# Altium footprint library Diodes.PcbLib: 38 footprints (part 2 of 3)
Each footprint in its own frame and in the unit in brackets; x right, y up, seen from the top. Pads: shape width x height; smd on the part's side, far side on the other; paste and mask are expansions set on the pad; w line width, h text height; cw(c..) or ccw(c..) is an arc to the next point about the centre after c.
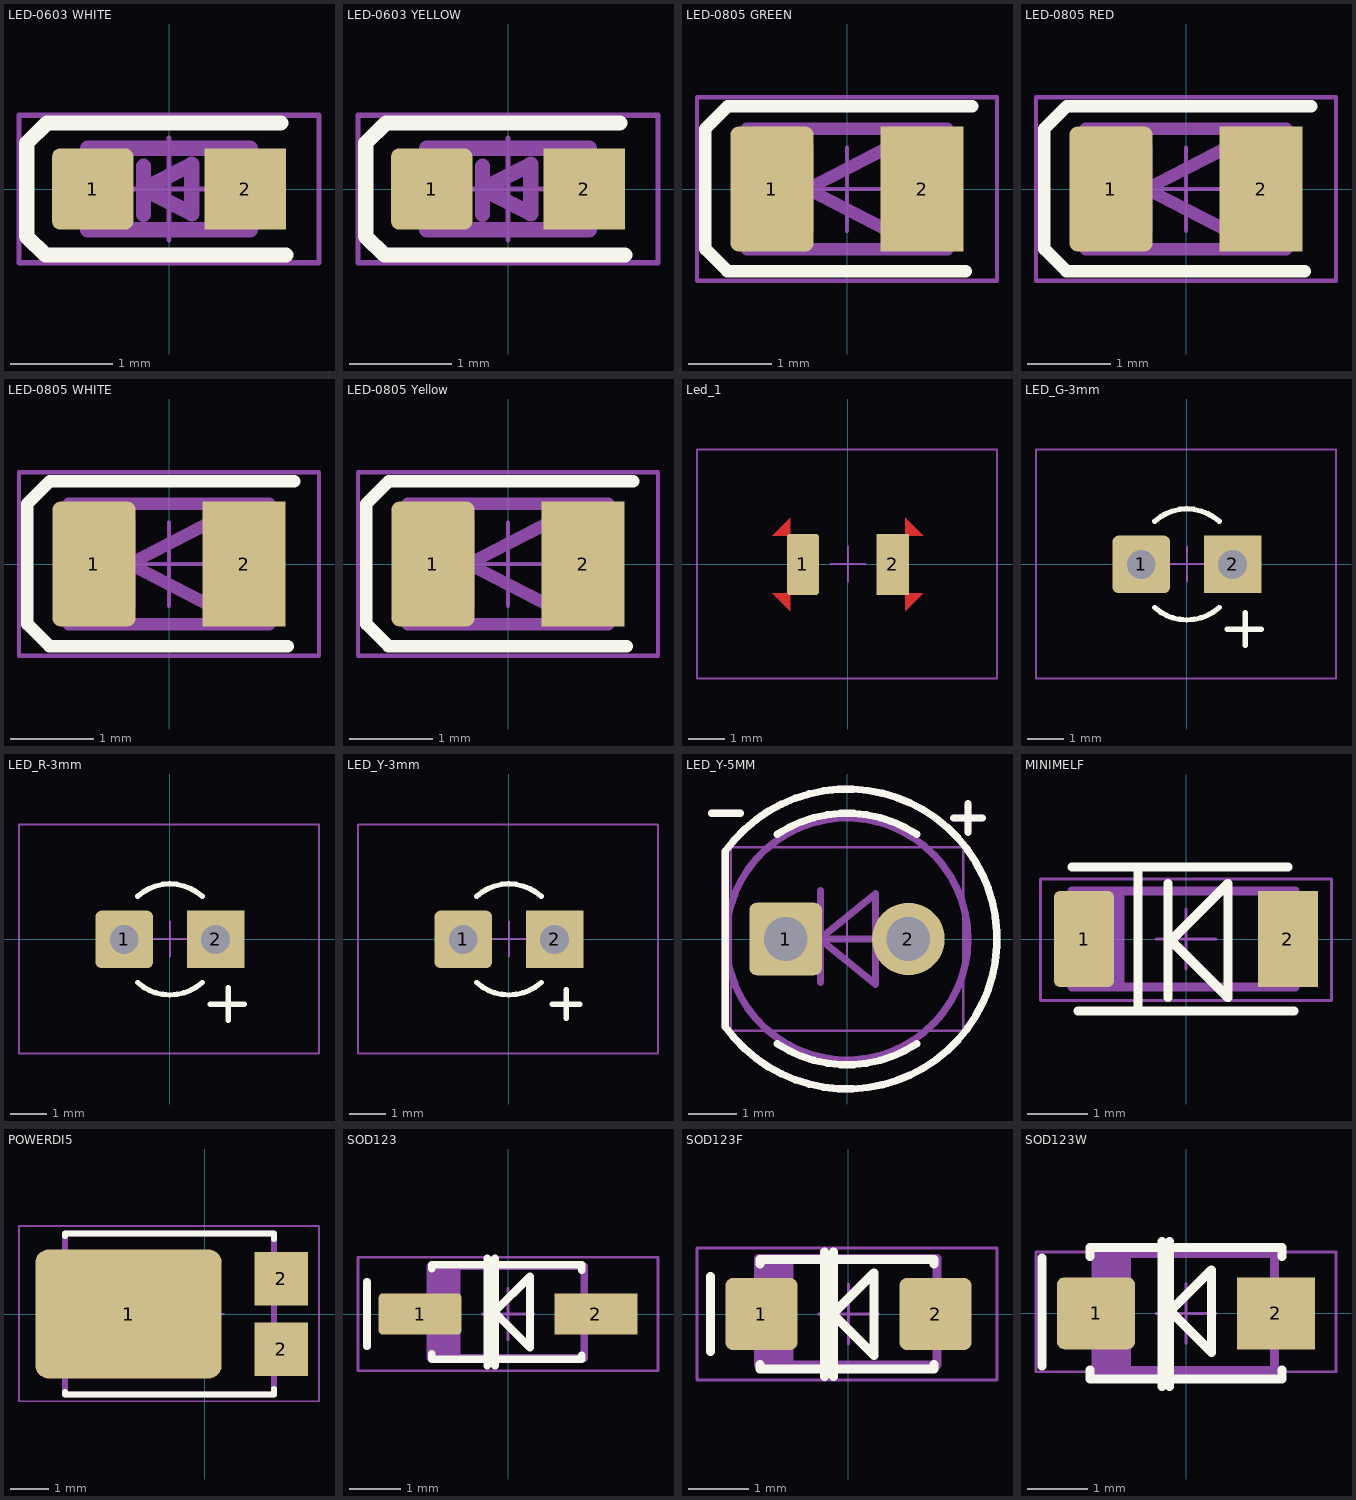
[diagram p1: the footprints below, top view; thin cyan lines are the x and y axes]

## LED-0603 WHITE [mm] "Чип светодиод 0603"
height 0.8
pads (2):
  rrect20% 0.8x0.8 smd: 1(-0.75,0)
  rect 0.8x0.8 smd: 2(0.75,0)
Top Overlay:
  lines w0.15: 1.1,0.65 -1.2,0.65 -1.4,0.45 -1.4,-0.465 -1.215,-0.65 1.15,-0.65
TopAssy 13:
  lines w0.15: -0.25,-0.25 -0.25,0.225 ; -0.8,-0.4 0.8,-0.4 0.8,0.4 -0.8,0.4 -0.8,-0.4 ; -0.25,0 0.225,0.244 0.225,-0.244 -0.25,0
CourtTop 15:
  lines w0.05: -0.5,0 0.5,0 ; 0,-0.5 0,0.5 ; -1.475,-0.725 1.475,-0.725 1.475,0.725 -1.475,0.725 -1.475,-0.725
3D body "User Library-Wurth Elektronik WL-SMCW 0603 (1608) LED Lens (Separate Body).step": height 0.7, standoff 0.3, extent -0.55,-0.4 0.55,0.4
3D body "User Library-Wurth Elektronik WL-SMCW 0603 (1608) LED Base (Separate Lens).step": height 0.64, standoff 0, extent -0.8,-0.4 0.8,0.4

## LED-0603 YELLOW [mm] "Чип светодиод 0603"
height 0.8
pads (2):
  rrect20% 0.8x0.8 smd: 1(-0.75,0)
  rect 0.8x0.8 smd: 2(0.75,0)
Top Overlay:
  lines w0.15: 1.1,0.65 -1.2,0.65 -1.4,0.45 -1.4,-0.465 -1.215,-0.65 1.15,-0.65
TopAssy 13:
  lines w0.15: -0.25,-0.25 -0.25,0.225 ; -0.8,-0.4 0.8,-0.4 0.8,0.4 -0.8,0.4 -0.8,-0.4 ; -0.25,0 0.225,0.244 0.225,-0.244 -0.25,0
CourtTop 15:
  lines w0.05: -0.5,0 0.5,0 ; 0,-0.5 0,0.5 ; -1.475,-0.725 1.475,-0.725 1.475,0.725 -1.475,0.725 -1.475,-0.725
3D body "User Library-Wurth Elektronik WL-SMCW 0603 (1608) LED Base (Separate Lens).step": height 0.64, standoff 0, extent -0.8,-0.4 0.8,0.4
3D body "User Library-Wurth Elektronik WL-SMCW 0603 (1608) LED Lens (Separate Body).step": height 0.7, standoff 0.3, extent -0.55,-0.4 0.55,0.4

## LED-0805 GREEN [mm] "Чип светодиод 0805/ KPT-2012SURC/ KPT-2012SGC/ KPT-2012SYC"
pads (2):
  rrect20% 1x1.5 smd: 1(-0.9,0)
  rect 1x1.5 smd: 2(0.9,0)
Top Overlay:
  lines w0.15: 1.425,-0.985 -1.435,-0.985 -1.7,-0.72 -1.7,0.725 -1.431,0.994 1.5,0.994
TopAssy 13:
  lines w0.15: -0.475,-0.5 -0.475,0.5 ; -1.2,-0.725 -1.2,0.725 1.2,0.725 1.2,-0.725 -1.2,-0.725 ; -0.475,0 0.5,-0.5 0.5,0.5 -0.475,0
CourtTop 15:
  lines w0.05: -0.5,0 0.5,0 ; 0,-0.5 0,0.5 ; -1.8,-1.1 1.8,-1.1 1.8,1.1 -1.8,1.1 -1.8,-1.1
3D body "User Library-Wurth Elektronik WL-SMCW 0805 (2012) LED Lens (Separate Body).step": height 0.7, standoff 0.3, extent -0.7,-0.625 0.7,0.625
3D body "User Library-Wurth Elektronik WL-SMCW 0805 (2012) LED Base (Separate Lens).step": height 0.64, standoff 0, extent -1,-0.625 1,0.625

## LED-0805 RED [mm] "Чип светодиод 0805/ KPT-2012SURC/ KPT-2012SGC/ KPT-2012SYC"
pads (2):
  rrect20% 1x1.5 smd: 1(-0.9,0)
  rect 1x1.5 smd: 2(0.9,0)
Top Overlay:
  lines w0.15: 1.425,-0.985 -1.435,-0.985 -1.7,-0.72 -1.7,0.725 -1.431,0.994 1.5,0.994
TopAssy 13:
  lines w0.15: -0.475,-0.5 -0.475,0.5 ; -1.2,-0.725 -1.2,0.725 1.2,0.725 1.2,-0.725 -1.2,-0.725 ; -0.475,0 0.5,-0.5 0.5,0.5 -0.475,0
CourtTop 15:
  lines w0.05: -0.5,0 0.5,0 ; 0,-0.5 0,0.5 ; -1.8,-1.1 -1.8,1.1 1.8,1.1 1.8,-1.1 -1.8,-1.1
3D body "User Library-Wurth Elektronik WL-SMCW 0805 (2012) LED Lens (Separate Body).step": height 0.7, standoff 0.3, extent -0.7,-0.625 0.7,0.625
3D body "User Library-Wurth Elektronik WL-SMCW 0805 (2012) LED Base (Separate Lens).step": height 0.64, standoff 0, extent -1,-0.625 1,0.625

## LED-0805 WHITE [mm] "Чип светодиод 0805 ,белый"
pads (2):
  rrect20% 1x1.5 smd: 1(-0.9,0)
  rect 1x1.5 smd: 2(0.9,0)
Top Overlay:
  lines w0.15: 1.425,-0.985 -1.435,-0.985 -1.7,-0.72 -1.7,0.725 -1.431,0.994 1.5,0.994
TopAssy 13:
  lines w0.15: -0.475,-0.5 -0.475,0.5 ; -1.2,-0.725 1.2,-0.725 1.2,0.725 -1.2,0.725 -1.2,-0.725 ; -0.475,0 0.5,0.5 0.5,-0.5 -0.475,0
CourtTop 15:
  lines w0.05: -0.5,0 0.5,0 ; 0,-0.5 0,0.5 ; -1.8,-1.1 -1.8,1.1 1.8,1.1 1.8,-1.1 -1.8,-1.1
3D body "User Library-Wurth Elektronik WL-SMCW 0805 (2012) LED Base (Separate Lens).step": height 0.64, standoff 0, extent -1,-0.625 1,0.625
3D body "User Library-Wurth Elektronik WL-SMCW 0805 (2012) LED Lens (Separate Body).step": height 0.7, standoff 0.3, extent -0.7,-0.625 0.7,0.625

## LED-0805 Yellow [mm] "Чип светодиод 0805/ KPT-2012SURC/ KPT-2012SGC/ KPT-2012SYC"
pads (2):
  rrect20% 1x1.5 smd: 1(-0.9,0)
  rect 1x1.5 smd: 2(0.9,0)
Top Overlay:
  lines w0.15: 1.425,-0.985 -1.435,-0.985 -1.7,-0.72 -1.7,0.725 -1.431,0.994 1.5,0.994
TopAssy 13:
  lines w0.15: -0.475,-0.5 -0.475,0.5 ; -1.2,-0.725 -1.2,0.725 1.2,0.725 1.2,-0.725 -1.2,-0.725 ; -0.475,0 0.5,-0.5 0.5,0.5 -0.475,0
CourtTop 15:
  lines w0.05: -0.5,0 0.5,0 ; 0,-0.5 0,0.5 ; -1.8,-1.1 -1.8,1.1 1.8,1.1 1.8,-1.1 -1.8,-1.1
3D body "User Library-Wurth Elektronik WL-SMCW 0805 (2012) LED Lens (Separate Body).step": height 0.7, standoff 0.3, extent -0.7,-0.625 0.7,0.625
3D body "User Library-Wurth Elektronik WL-SMCW 0805 (2012) LED Base (Separate Lens).step": height 0.64, standoff 0, extent -1,-0.625 1,0.625

## Led_1 [mm]
pads (2):
  rrect20% 0.9x1.7 smd: 1(-1.25,0)
  rect 0.9x1.7 smd: 2(1.25,0)
Top:
  region: 1.6,-1.3 2.1,-0.8 1.825,-0.8 1.6,-0.8
  region: -2.1,-0.8 -1.6,-1.3 -1.6,-1.025 -1.6,-0.8
  region: -1.6,1.3 -2.1,0.8 -1.825,0.8 -1.6,0.8
  region: 2.1,0.8 1.6,1.3 1.6,1.025 1.6,0.8
  text "+" at 4.976,-1.041 h1.92
Top Solder:
  region: -2.262,-0.725 -1.538,-1.45 -1.537,-1.175 -1.537,-0.725
  region: -1.525,1.462 -2.25,0.738 -1.975,0.737 -1.525,0.737
  region: 2.263,0.725 1.538,1.45 1.538,1.175 1.538,0.725
  region: 1.525,-1.462 2.25,-0.738 1.975,-0.737 1.525,-0.737
CourtTop 15:
  lines w0.05: -0.488,0.012 0.487,0.012 ; 0,-0.475 0,0.5 ; -4.2,-3.175 -4.2,3.2 4.15,3.2 4.15,-3.175 -4.2,-3.175

## LED_G-3mm [mm] "LED; 2 Leads"
height 1.45
pads (2):
  rrect20% 1.6x1.6 hole 0.8: 1(-1.27,0)
  rect 1.6x1.6 hole 0.8: 2(1.27,0)
Top Overlay:
  lines w0.15: -0.9,-1.2 ccw(c0,-0.2) 0.9,-1.2 ; -0.9,1.2 cw(c0,0.2) 0.9,1.2 ; 1.125,-1.8 2.075,-1.8 ; 1.625,-2.25 1.625,-1.35
CourtTop 15:
  lines w0.05: -0.488,0.012 0.487,0.012 ; 0,-0.475 0,0.5 ; -4.2,-3.175 4.15,-3.175 4.15,3.2 -4.2,3.2 -4.2,-3.175
3D body "SW3dPS-LEDd3G.STEP": height 5.51, standoff -2.49, extent -1.664,-1.649 1.636,1.64

## LED_R-3mm [mm] "LED; 2 Leads"
height 1.45
pads (2):
  rrect20% 1.6x1.6 hole 0.8: 1(-1.27,0)
  rect 1.6x1.6 hole 0.8: 2(1.27,0)
Top Overlay:
  lines w0.15: -0.9,-1.2 ccw(c0,-0.2) 0.9,-1.2 ; -0.9,1.2 cw(c0,0.2) 0.9,1.2 ; 1.125,-1.8 2.075,-1.8 ; 1.625,-2.25 1.625,-1.35
CourtTop 15:
  lines w0.05: -0.488,0.012 0.487,0.012 ; 0,-0.475 0,0.5 ; -4.2,-3.175 4.15,-3.175 4.15,3.2 -4.2,3.2 -4.2,-3.175
3D body "SW3dPS-LEDd3R.STEP": height 5.51, standoff -2.49, extent -1.664,-1.649 1.636,1.64

## LED_Y-3mm [mm] "LED; 2 Leads"
height 1.45
pads (2):
  rrect20% 1.6x1.6 hole 0.8: 1(-1.27,0)
  rect 1.6x1.6 hole 0.8: 2(1.27,0)
Top Overlay:
  lines w0.15: -0.9,-1.2 ccw(c0,-0.2) 0.9,-1.2 ; -0.9,1.2 cw(c0,0.2) 0.9,1.2 ; 1.2,-1.8 1.975,-1.8 ; 1.6,-2.2 1.6,-1.4
CourtTop 15:
  lines w0.05: -0.488,0.012 0.487,0.012 ; 0,-0.475 0,0.5 ; -4.2,-3.175 -4.2,3.2 4.15,3.2 4.15,-3.175 -4.2,-3.175
3D body "SW3dPS-LEDd3Y.STEP": height 5.51, standoff -2.49, extent -1.664,-1.649 1.636,1.64

## LED_Y-5MM [mm] "LED-Y-5mm"
height 5.7
pads (2):
  rrect20% 1.5x1.5 hole 0.9: 1(-1.27,0)
  round 1.5 hole 0.9: 2(1.27,0)
Top Overlay:
  lines w0.15: -2.8,2.6 -2.2,2.6 ; -1.442,-2.163 ccw(c0,0) 1.442,-2.163 ; -1.442,2.163 cw(c0,0) 1.442,2.163 ; 2.2,2.5 2.8,2.5 ; 2.5,2.2 2.5,2.8 ; -2.516,-1.811 ccw(c0,0) -2.516,1.811 ; -2.516,-1.811 ccw(c0,0) -2.516,1.811 ; -2.516,-1.811 -2.516,1.811
TopAssy 13:
  circle w0.15: c0,0 r2.5
  lines w0.15: -2.8,2.6 -2.2,2.6 ; -0.95,0 -0.55,0 0.95,0 ; -0.55,-0.9 -0.55,1 ; 2.2,2.5 2.8,2.5 ; 2.5,2.2 2.5,2.8 ; -2.516,-1.811 ccw(c0,0) -2.516,1.811 -2.516,-1.811 ; -0.563,0 0.587,0.937 0.587,-0.937 -0.563,0
CourtTop 15:
  lines w0.05: -0.488,0.012 0.487,0.012 ; 0,-0.475 0,0.5 ; -2.4,-1.9 -2.4,1.9 2.4,1.9 2.4,-1.9 -2.4,-1.9
CourtBot 16:
  circle w0.15: c1.296,-0.092 r0.4
  circle w0.15: c-1.27,0 r0.4
3D body "User Library-LED-D5Y.step": height 9.14, standoff -6.3, extent -2.5,-3 3,3

## MINIMELF [mm] "MINIMELF(DO-213AA)(SOD-80)"
pads (2):
  rrect20% 1x1.6 smd: 1(-1.7,0)
  rect 1x1.6 smd: 2(1.7,0)
Top Overlay:
  lines w0.15: -1.9,1.2 1.7,1.2 ; -1.8,-1.2 1.8,-1.2 ; -0.8,-1.2 -0.8,1.1 ; -0.3,-0.975 -0.3,0.925 ; -0.3,-0.075 0.7,0.925 0.7,-0.975 -0.2,-0.075
TopAssy 13:
  lines w0.15: -1.4,-0.8 -1.4,0.8 ; -1.2,-0.8 -1.2,0.8 ; -1.1,-0.8 -1.1,0.8 ; 1.3,-0.8 1.3,0.8 ; -1.9,-0.8 1.82,-0.8 1.82,0.8 -1.9,0.8 -1.9,-0.8
CourtTop 15:
  lines w0.05: -0.5,0 0.5,0 ; 0,-0.5 0,0.5 ; -2.425,-1.025 2.425,-1.025 2.425,1 -2.425,1 -2.425,-1.025
3D body "User Library-MiniMelf-2.step": height 1.6, standoff 0, extent -1.88,-0.8 1.82,0.8

## POWERDI5 [mm] "POWERDI5"
pads (3):
  rrect20% 4.86x3.36 smd: 1(-1.992,0)
  rect 1.39x1.4 smd: 2(1.993,-0.92) 2(1.993,0.92)
Top Overlay:
  lines w0.15: -3.65,-2.025 -3.65,-2.1 1.8,-2.1 1.8,-1.95 ; -3.65,2.025 -3.65,2.1 1.8,2.1 1.8,1.95
TopAssy 13:
  lines w0.15: -3.65,-0.895 -4.207,-0.895 -4.207,0.83 -3.65,0.83 ; -1.407,-0.895 -1.407,1.005 ; -1.407,0.005 -0.407,1.005 -0.407,-0.895 -1.307,0.005 ; 1.793,0.48 2.293,0.48 2.293,1.38 1.818,1.38 ; 1.818,-1.395 2.293,-1.395 2.293,-0.47 1.818,-0.47 ; -3.65,-2.1 -3.65,2.1 1.8,2.1 1.8,-2.1 -3.65,-2.1
CourtTop 15:
  lines w0.05: -0.5,0 0.5,0 ; 0,-0.5 0,0.5 ; -4.85,-2.275 -4.85,2.3 2.975,2.3 2.975,-2.275 -4.85,-2.275
3D body "User Library-PowerDI-5.STEP": height 1.17, standoff 0.02, extent -4.225,-2.025 2.375,2.025

## SOD123 [mm] "SOD-123; 2 Leads; Body 2.7 x 1.6 mm, (LxW)"
height 1.35
pads (2):
  rrect20% 1.6x0.8 smd: 1(-1.7,0)
  rect 1.6x0.8 smd: 2(1.7,0)
Top Overlay:
  lines w0.15: -2.725,-0.625 -2.725,0.625 ; -1.475,-0.775 -1.475,-0.875 1.425,-0.875 1.425,-0.8 ; -1.475,0.875 -1.475,0.95 1.425,0.95 ; -0.4,-1 -0.4,1.075 ; -0.25,-1 -0.25,1.075 ; 1.425,0.85 1.425,0.925 ; -0.263,0.037 0.425,0.725 0.425,-0.65 -0.263,0.037
TopAssy 13:
  region: -0.925,-0.85 -1.55,-0.85 -1.55,0.925 -0.925,0.925
  lines w0.15: -1.55,-0.2 -1.9,-0.2 -1.9,0.1 -1.55,0.1 ; 1.55,-0.175 1.9,-0.175 1.9,0.125 1.55,0.125 ; -1.5,-0.85 1.475,-0.85 1.475,0.925 -1.5,0.925 -1.5,-0.85
CourtTop 15:
  lines w0.05: -0.5,0 0.5,0 ; 0,-0.5 0,0.5 ; -2.9,-1.1 -2.9,1.1 2.9,1.1 2.9,-1.1 -2.9,-1.1
3D body "SOD-123.step": height 1.42, standoff -0.03, extent -1.925,-0.8 1.925,0.9

## SOD123F [mm] "SOD-123F 2 Leads; Body 2.7 x 1.6 mm, (LxW)"
height 1.35
pads (2):
  rrect20% 1.2x1.2 smd: 1(-1.45,0) 2(1.45,0)
Top Overlay:
  lines w0.15: -2.3,-0.625 -2.3,0.625 ; -1.475,-0.838 -1.475,-0.913 1.425,-0.913 1.425,-0.838 ; -1.475,0.837 -1.475,0.912 1.425,0.912 1.425,0.837 ; -0.4,-1.038 -0.4,1.037 ; -0.25,-1.038 -0.25,1.037 ; -0.263,0 0.425,0.687 0.425,-0.688 -0.263,0
TopAssy 13:
  region: -0.925,-0.85 -1.55,-0.85 -1.55,0.925 -0.925,0.925
  lines w0.15: -1.55,-0.2 -1.9,-0.2 -1.9,0.1 -1.55,0.1 ; 1.55,-0.175 1.9,-0.175 1.9,0.125 1.55,0.125 ; -1.5,-0.85 1.475,-0.85 1.475,0.925 -1.5,0.925 -1.5,-0.85
CourtTop 15:
  lines w0.05: -0.5,0 0.5,0 ; 0,-0.5 0,0.5 ; -2.525,-1.1 -2.525,1.1 2.475,1.1 2.475,-1.1 -2.525,-1.1
3D body "User Library-SOD123F.step": height 1.22, standoff 0.01, extent -1.9,-0.85 1.85,0.85

## SOD123W [mm] "SOD-123; 2 Leads; Body 2.8 x 1.9 mm, (LxW)"
height 1.1
pads (2):
  rrect20% 1.3x1.2 smd: 1(-1.5,0)
  rect 1.3x1.2 smd: 2(1.5,0)
Top Overlay:
  lines w0.15: -2.4,-0.875 -2.4,0.925 ; -1.6,-0.95 -1.6,-1.1 1.6,-1.1 1.6,-0.95 ; -1.6,0.95 -1.6,1.1 1.6,1.1 1.6,0.95 ; -0.4,-1.225 -0.4,1.2 ; -0.275,-1.225 -0.275,1.2 ; -0.263,0.038 0.425,-0.65 0.425,0.725 -0.263,0.038
TopAssy 13:
  region: -0.925,-0.925 -1.55,-0.925 -1.55,0.925 -0.925,0.925
  lines w0.15: -1.55,-0.2 -1.9,-0.2 -1.9,0.1 -1.55,0.1 ; 1.55,-0.175 1.9,-0.175 1.9,0.125 1.55,0.125 ; -1.5,-0.95 -1.5,1 1.475,1 1.475,-0.95 -1.5,-0.95
CourtTop 15:
  lines w0.05: -0.5,0 0.5,0 ; 0,-0.5 0,0.5 ; -2.5,-0.975 2.5,-0.975 2.5,1.025 -2.5,1.025 -2.5,-0.975
3D body "User Library-SOD123W.step": height 1.15, standoff 0.04, extent -2,-0.975 2,0.925